# Altium schematic symbol library FlatSatComponents.SchLib: 7 symbols
Pins are listed as number, name and electrical type; pins without a type are passive.

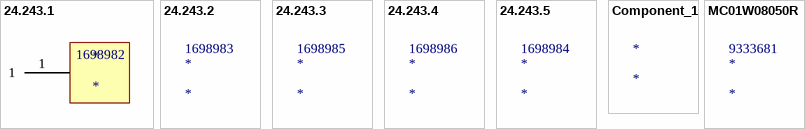
[diagram p0: symbols 24.243.1 to MC01W08050R]

## 24.243.1
designator *  Supplier Part Number 1: 1698982
MULTICOMP - 24.243.1 - BANANA SOCKET, 20A, 4MM, PCB, RED; Supplier 1: Farnell; Manufacturer: MULTICOMP; Manufacturer Part Number: 24.243.1; RoHS: YES; Stock 1: 11152; Pricing 1: 1=0.627, 10=0.579, 25=0.554 (GBP); ComponentLink1URL: http://www.farnell.com/datasheets/1901211.pdf; ComponentLink1Description: http://www.farnell.com/datasheets/1901211.pdf
pins: 1

## 24.243.2
designator *  Supplier Part Number 1: 1698983
MULTICOMP - 24.243.2 - RECEPTACLE, 20A, 4MM, PCB, SOLDER, BLACK; Product Range: A-2.107 Series; Gender: Jack; Current Rating: 20; Connector Mounting: PCB Mount; SVHC: No SVHC (15-Jun-2015); Connector Type: Test Socket; Voltage Rating V AC: 30V<!--FANDB--><div class="features-and-benefits-container"><div class="features-and-benefits-description"><span class="features-benefits-value">The 24.243.2 is a PCB Banana Socket with silver-plated surface.</span></div><div class="features-and-benefits-list"><ul class="features-and-benefits-list-list"><li class="features-and-benefits-list-item">High Reliability</li><li class="features-and-benefits-list-item">High Stability</li><li class="features-and-benefits-list-item">Economical and Practical</li><li class="features-and-benefits-list-item">?0.005; Supplier 1: Farnell; Manufacturer: MULTICOMP; Manufacturer Part Number: 24.243.2; RoHS: YES; Stock 1: 10983; Pricing 1: 1=0.724, 10=0.643, 25=0.587 (GBP); Contact Termination Type: Solder; Voltage Rating: -; Contact Plating: Silver Plated Contacts; Contact Material: Brass; Connector Colour: Black; Contact Termination: Solder; Length: 24; ComponentLink1URL: http://www.farnell.com/cad/655022.pdf; ComponentLink1Description: http://www.farnell.com/cad/655022.pdf; ComponentLink2URL: http://www.farnell.com/datasheets/1901211.pdf; ComponentLink2Description: http://www.farnell.com/datasheets/1901211.pdf

## 24.243.3
designator *  Supplier Part Number 1: 1698985
MULTICOMP - 24.243.3 - SOCKET, 4MM, PCB, YELLOW; Supplier 1: Farnell; Manufacturer: MULTICOMP; Manufacturer Part Number: 24.243.3; RoHS: YES; Stock 1: 1559; Pricing 1: 1=0.722, 10=0.651, 25=0.605 (GBP); ComponentLink1URL: http://www.farnell.com/cad/655022.pdf; ComponentLink1Description: http://www.farnell.com/cad/655022.pdf; ComponentLink2URL: http://www.farnell.com/datasheets/1901211.pdf; ComponentLink2Description: http://www.farnell.com/datasheets/1901211.pdf

## 24.243.4
designator *  Supplier Part Number 1: 1698986
MULTICOMP - 24.243.4 - SOCKET, 4MM, PCB, GREEN; Supplier 1: Farnell; Manufacturer: MULTICOMP; Manufacturer Part Number: 24.243.4; RoHS: YES; Stock 1: 1895; Pricing 1: 1=0.708, 10=0.638, 25=0.594 (GBP); ComponentLink1URL: http://www.farnell.com/cad/655022.pdf; ComponentLink1Description: http://www.farnell.com/cad/655022.pdf; ComponentLink2URL: http://www.farnell.com/datasheets/1901211.pdf; ComponentLink2Description: http://www.farnell.com/datasheets/1901211.pdf

## 24.243.5
designator *  Supplier Part Number 1: 1698984
MULTICOMP - 24.243.5 - SOCKET, 4MM, PCB, BLUE; Supplier 1: Farnell; Manufacturer: MULTICOMP; Manufacturer Part Number: 24.243.5; RoHS: YES; Stock 1: 2543; Pricing 1: 1=0.708, 10=0.638, 25=0.594 (GBP); ComponentLink1URL: http://www.farnell.com/cad/655022.pdf; ComponentLink1Description: http://www.farnell.com/cad/655022.pdf; ComponentLink2URL: http://www.farnell.com/datasheets/1901211.pdf; ComponentLink2Description: http://www.farnell.com/datasheets/1901211.pdf

## Component_1
designator *

## MC01W08050R
designator *  Supplier Part Number 1: 9333681
MULTICOMP - MC01W08050R - RESISTOR, THICK FILM, 0R, 0.1W; Supplier 1: Farnell; Manufacturer: MULTICOMP; Manufacturer Part Number: MC01W08050R; RoHS: Y-EX; Stock 1: 395875; Pricing 1: 10=0.0114, 100=0.0098, 500=0.0082, 1000=0.0064, 2500=0.0039, 5000=0.0028, 25000=0.0016, 50000=0.0014 (GBP); ComponentLink1URL: http://www.farnell.com/datasheets/1716700.pdf; ComponentLink1Description: http://www.farnell.com/datasheets/1716700.pdf; ComponentLink2URL: http://www.farnell.com/cad/1561152.zip; ComponentLink2Description: http://www.farnell.com/cad/1561152.zip